# EAGLE library part TLP351 (library 04_IC)
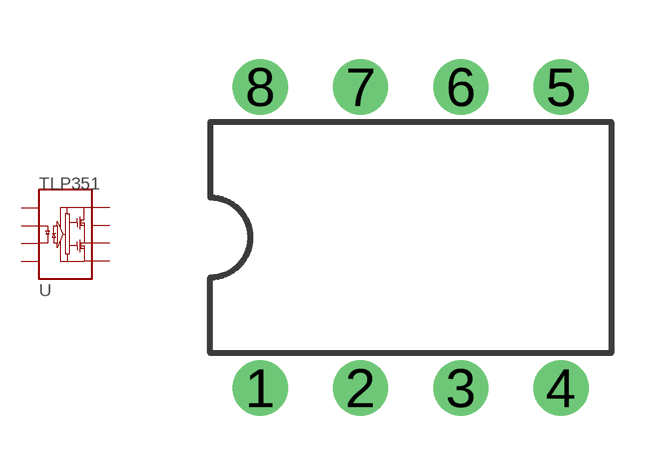
[diagram p0: symbol with the pads of DIL08; footprint DIL08]

Designator prefix -

## TLP351  [DIL08]
1  NC1  nc
2  LED+
3  LED-
4  NC4  nc
5  GND
6  OUT  out
7  NC7  nc
8  VDD

## Footprint DIL08 (pad centres in mm)
Dual In Line Package
drill 0.8 pad 1.4: 1 -3.81,-3.81; 2 -1.27,-3.81; 3 1.27,-3.81; 4 3.81,-3.81; 5 3.81,3.81; 6 1.27,3.81; 7 -1.27,3.81; 8 -3.81,3.81